# Altium schematic symbol library TLV70237DBVR1_TLV70237DBVR.schdoc.SCHLIB: 1 symbol
Pins are listed as number, name and electrical type; pins without a type are passive.

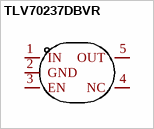
[diagram p0: symbol TLV70237DBVR]

## TLV70237DBVR
designator U??  (value not drawn)
Add into BOM: yes; Symbol: TLV70237DBVR; Device: TLV70237DBVR; LCSC Part Name: TLV70237DBVR; Supplier Part: C2877850; Manufacturer Part: TLV70237DBVR; Supplier Footprint: SOT-23-5; JLCPCB Part Class: Extended Part; Supplier: LCSC; Convert to PCB: yes
footprint SOT-23-5_L2.9-W1.6-P0.95-LS2.8-BR
pins: 1 IN, 2 GND, 3 EN, 4 NC, 5 OUT